# EAGLE library part TCAN332 (library lib_stankus)
TCAN332 CAN transceiver Farnell 2526582
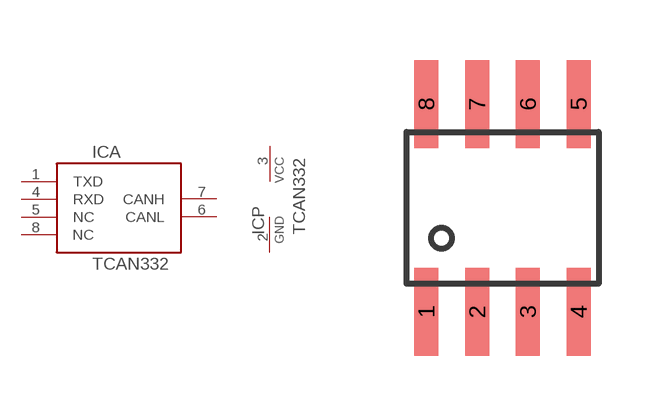
[diagram p100: symbol with the pads of SOIC8; footprint SOIC8]

Designator prefix IC; gates A=TCAN332_IO P=TCAN332_PWR

## TCAN332-SOIC8  [SOIC8]
1  A:TXD  pas
2  P:GND  pas
3  P:VCC  pas
4  A:RXD  pas
5  A:NC  nc
6  A:CANL  pas
7  A:CANH  pas
8  A:NC  nc

## Footprint SOIC8 (pad centres in mm)
SOIC8
smd 0.6 x 2.2: 1 -1.905,-2.6; 2 -0.635,-2.6; 3 0.635,-2.6; 4 1.905,-2.6; 5 1.905,2.6; 6 0.635,2.6; 7 -0.635,2.6; 8 -1.905,2.6